# Altium schematic symbol library RES - Through Hole Resistors.SchLib: 2 symbols
Pins are listed as number, name and electrical type; pins without a type are passive.

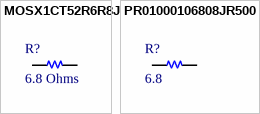
[diagram p0: symbols MOSX1CT52R6R8J to PR01000106808JR500]

## MOSX1CT52R6R8J
designator R?, comment 6.8 Ohms
Metal Oxide Resistors RSS1 6.8 5%TR; Manufacturer: KOA Speer; Manufacturer Part Number: MOSX1CT52R6R8J; Power Rating: 1 W; Temperature Coefficient: 300 PPM / C; Tolerance: 5 %; Qualification: AEC-Q200; Supplier 1: Mouser; Supplier Part Number 1: 660-MOSX1CT52R6R8J; RoHS: RoHS Compliant; Category: Metal Oxide Resistors; Stock 1: 7005; Pricing 1: 1=0.100, 50=0.082, 100=0.075, 500=0.063, 1000=0.056, 4000=0.049, 8000=0.046, 12000=0.040, 20000=0.035 (USD); Diameter: 3 mm; Length: 9 mm; Operating Temperature Range: - 55 C to + 200 C; Packaging: Reel; Product: Power Resistors Metal Oxide; Resistance: 6.8 Ohms; Series: MOS; Termination Style: Axial; Brand: KOA Speer; Standard Pack Qty: 4000; RoHS - Mouser: Y; Minimum Order Quantity: 1; Reeling: True; ComponentLink1URL: http://www.mouser.com/ds/2/219/MOS-16613.pdf; ComponentLink1Description: http://www.mouser.com/ds/2/219/MOS-16613.pdf
footprint Axial_D3.4mm_P4.0mm_straight (Resistors, Axial, , Length 6.5 mm, Diameter 2.5 mm)
pins: 1, 2

## PR01000106808JR500
designator R?, comment 6.8
RES 6.8 OHM 1W 5% AXIAL; Manufacturer: Vishay BC Components; Manufacturer Part Number: PR01000106808JR500; Temperature Coefficient: ±250ppm/°C; Resistance: 6.8 Ohms; Voltage Rating: 350 V; Brand: Vishay / BC Components; Lead Diameter: 0.58 mm; Supplier 1: Digi-Key; RoHS: RoHS Compliant; Category: Resistors; Stock 1: 2328; Pricing 1: 1=0.24, 10=0.206, 25=0.1496, 50=0.1084, 100=0.0804, 250=0.06172, 500=0.04862, 1000=0.03366, 2500=0.03086 (USD); Packaging: Cut Tape (CT); Part Status: Active; Resistance (Ohms): 6.8; Tolerance: ±5%; Power (Watts): 1W; Composition: Metal Film; Features: Automotive AEC-Q200, Flame Retardant Coating, Safety; Operating Temperature: -55°C ~ 155°C; Package / Case: Axial; Supplier Device Package: Axial; Size / Dimension: 0.098" Dia x 0.256" L (2.50mm x 6.50mm); Height: -; Number of Terminations: 2; Failure Rate: -; ComponentLink1URL: http://www.vishay.com/docs/28729/pr010203.pdf; ComponentLink1Description: http://www.vishay.com/docs/28729/pr010203.pdf; Supplier 2: Mouser; Stock 2: 532; Pricing 2: 1=0.180, 100=0.110, 500=0.063, 1000=0.044, 5000=0.025, 10000=0.024, 25000=0.023, 50000=0.022 (USD); Diameter: 2.5 mm; Length: 6.5 mm; Operating Temperature Range: - 55 C to + 155 C; Power Rating: 1 W; Product: Metal Film Resistors - Through Hole; Series: 5073; Termination Style: Axial; Type: Power Metal Film Leaded Resistors; Lead Spacing: -; Standard Pack Qty: 5000; RoHS - Mouser: Y; Minimum Order Quantity: 1; Reeling: True; ComponentLink2URL: http://www.mouser.com/ds/2/427/pr010203-239785.pdf; ComponentLink2Description: http://www.mouser.com/ds/2/427/pr010203-239785.pdf; Supplier Part Number 1: PPC6.8W-1CT-ND; Supplier Part Number 2: 594-5073NW6R800J
footprint Axial_D3.4mm_P4.0mm_straight (Resistors, Axial, , Length 6.5 mm, Diameter 2.5 mm)
pins: 1, 2